# EAGLE library part DA9062 (library mylib)
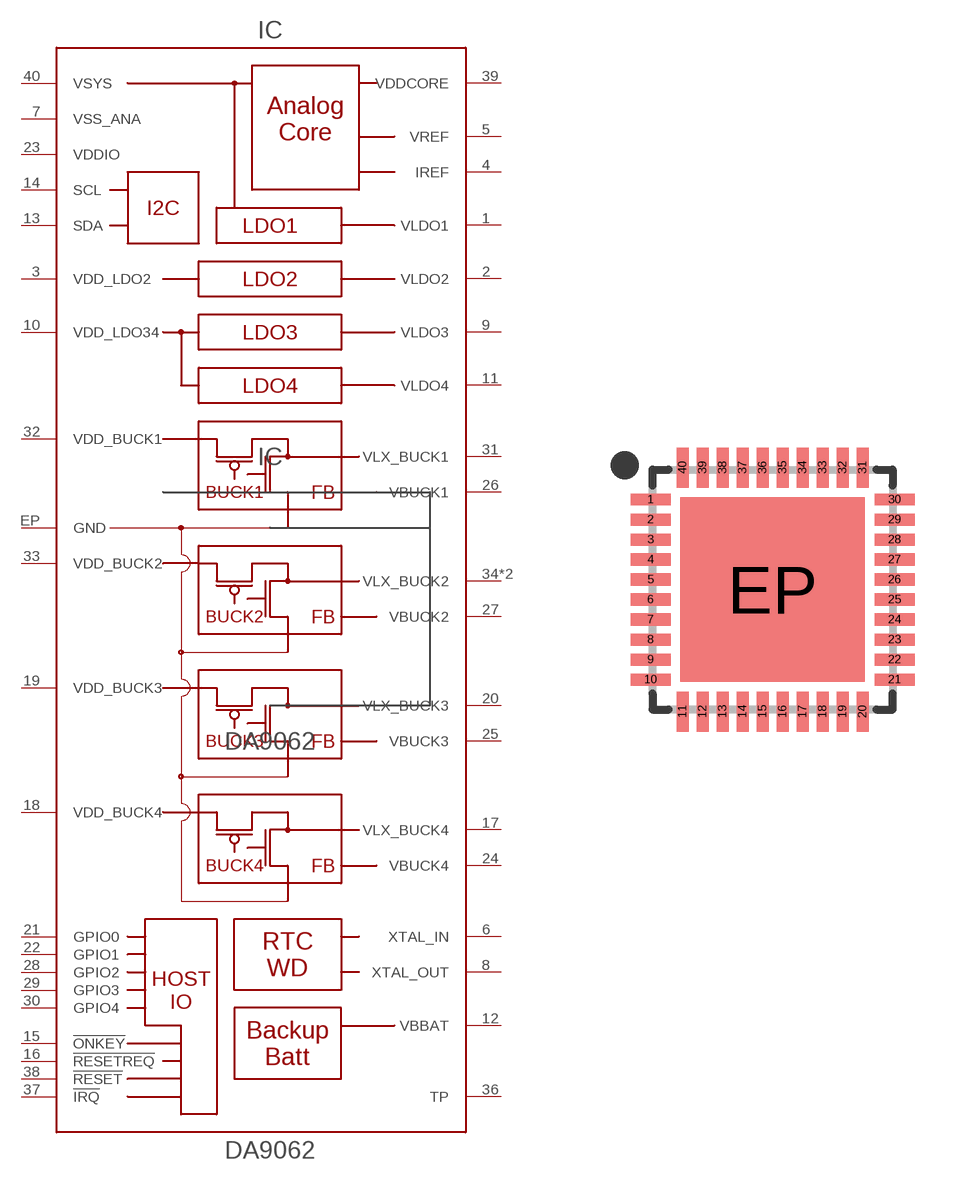
[diagram p129: symbol with the pads of QFN40-0.5P6.0X6.0; footprint QFN40-0.5P6.0X6.0]

Designator prefix IC

## DA9062  [QFN40-0.5P6.0X6.0]
1  VLDO1
2  VLDO2
3  VDD_LDO2
4  IREF
5  VREF
6  XTAL_IN
7  VSS_ANA
8  XTAL_OUT
9  VLDO3
10  VDD_LDO34
11  VLDO4
12  VBBAT
13  SDA
14  SCL
15  !ONKEY
16  !RESETREQ
17  VLX_BUCK4
18  VDD_BUCK4
19  VDD_BUCK3
20  VLX_BUCK3
21  GPIO0
22  GPIO1
23  VDDIO
24  VBUCK4
25  VBUCK3
26  VBUCK1
27  VBUCK2
28  GPIO2
29  GPIO3
30  GPIO4
31  VLX_BUCK1
32  VDD_BUCK1
33  VDD_BUCK2
34  VLX_BUCK2
35  VLX_BUCK2
36  TP
37  !IRQ
38  !RESET
39  VDDCORE
40  VSYS
EP  GND

## Footprint QFN40-0.5P6.0X6.0 (pad centres in mm)
smd 1 x 0.3: 1 -3.05,2.25; 2 -3.05,1.75; 3 -3.05,1.25; 4 -3.05,0.75; 5 -3.05,0.25; 6 -3.05,-0.25; 7 -3.05,-0.75; 8 -3.05,-1.25; 9 -3.05,-1.75; 10 -3.05,-2.25; 21 3.05,-2.25; 22 3.05,-1.75; 23 3.05,-1.25; 24 3.05,-0.75; 25 3.05,-0.25; 26 3.05,0.25; 27 3.05,0.75; 28 3.05,1.25; 29 3.05,1.75; 30 3.05,2.25
smd 0.3 x 1: 11 -2.25,-3.05; 12 -1.75,-3.05; 13 -1.25,-3.05; 14 -0.75,-3.05; 15 -0.25,-3.05; 16 0.25,-3.05; 17 0.75,-3.05; 18 1.25,-3.05; 19 1.75,-3.05; 20 2.25,-3.05; 31 2.25,3.05; 32 1.75,3.05; 33 1.25,3.05; 34 0.75,3.05; 35 0.25,3.05; 36 -0.25,3.05; 37 -0.75,3.05; 38 -1.25,3.05; 39 -1.75,3.05; 40 -2.25,3.05
smd 4.62 x 4.62: EP 0,0